# Altium footprint library 693071010811.PcbLib: 1 footprints
Each footprint in its own frame and in the unit in brackets; x right, y up, seen from the top. Pads: shape width x height; smd on the part's side, far side on the other; paste and mask are expansions set on the pad; w line width, h text height; cw(c..) or ccw(c..) is an arc to the next point about the centre after c.
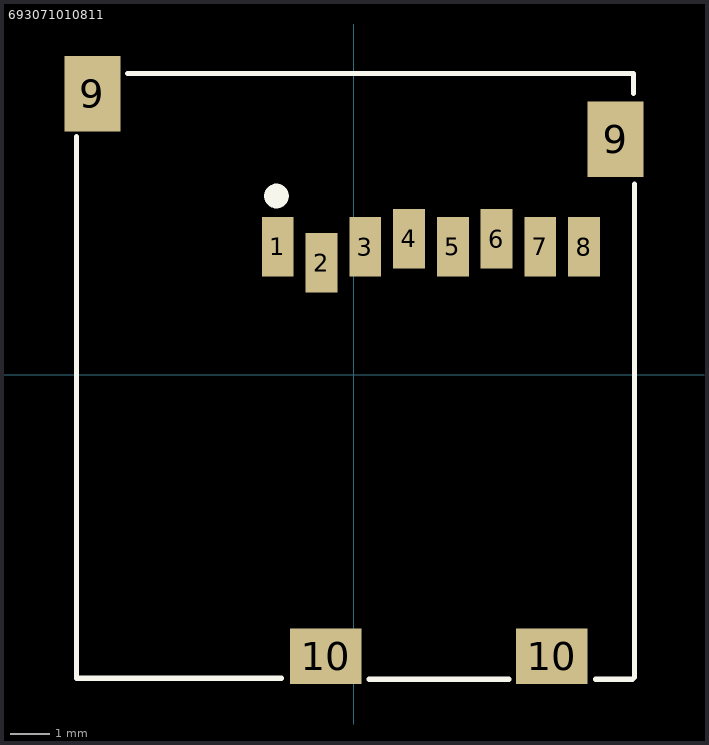
[diagram p0: the footprint, top view; thin cyan lines are the x and y axes]

## 693071010811 [mm] "WR-CRD Micro SD_Push and Push_Card Detection_8 pins"
height 1.98
pads (12):
  rect 0.8x1.5 smd: 1(-1.915,3.225) 2(-0.815,2.825) 3(0.285,3.225) 4(1.385,3.425) 5(2.485,3.225) 6(3.585,3.425) 7(4.685,3.225) 8(5.785,3.225)
  rect 1.4x1.9 smd: 9(-6.575,7.075) 9(6.575,5.925)
  rect 1.8x1.4 smd: 10(-0.715,-7.075) 10(4.975,-7.075)
Top Overlay:
  circle w0.32: c-1.95,4.5 r0.15
  lines w0.127: -6.975,6 -6.975,-7.625 -1.825,-7.625 ; -5.7,7.585 7.025,7.585 7.025,7.075 ; 0.375,-7.65 3.9,-7.65 ; 6.075,-7.65 7,-7.65 ; 7.05,-7.6 7.05,4.8
3D body "693071010811.stp": height 1.84, standoff -0.06, extent -6.975,-7.625 7.025,7.585